# EAGLE library part IRF7201 (library semiconductor)
MOSFET, N, LOGIC, SO-8; Transistor Type:MOSFET; Transistor Polarity:N; Voltage, Vds Typ:30V; Current, Id Cont:7.3A; Resistance, Rds On:0.03ohm; Voltage, Vgs Rds on Measurement:10V; Voltage, Vgs th Typ:1V; Case Style:SOIC; Termination Type:SMD; Current, Idm Pulse:58A; Depth, External:5.2mm; Length / Height, External:1.75mm; Marking, SMD:F7201; Pins, No. of:8; Power Dissipation:2.5W; Power, Pd:2.5W; Temperature, Current:25°C; Temperature, Full Power Rating:25°C; Temperature, Tj Min:-55°C; Transistors, No. of:1; Voltage, Vds:30V; Voltage, Vds Max:30V; Width, External:4.05mm
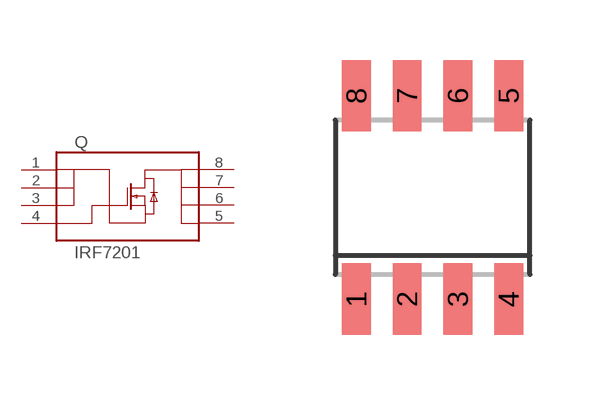
[diagram p2: symbol with the pads of SO08-IRF; footprint SO08-IRF]

Designator prefix Q

## IRF7201  [SO08-IRF]
1  S  pas
2  S  pas
3  S  pas
4  G  pas
5  D  pas
6  D  pas
7  D  pas
8  D  pas

## Footprint SO08-IRF (pad centres in mm)
SO8 Source: http://www.irf.com/product-info/datasheets/data/irf7389.pdf
smd 0.72 x 1.78: 1 -1.905,-2.543; 2 -0.635,-2.543; 3 0.635,-2.543; 4 1.905,-2.543; 5 1.905,2.543; 6 0.635,2.543; 7 -0.635,2.543; 8 -1.905,2.543